# Altium schematic symbol library DRV8833_DRIVER.SchLib: 1 symbol
Pins are listed as number, name and electrical type; pins without a type are passive.

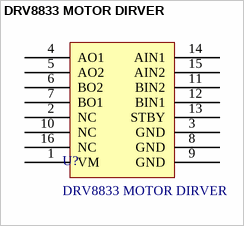
[diagram p0: symbol DRV8833 MOTOR DIRVER]

## DRV8833 MOTOR DIRVER
designator U?
footprint DRV8833 MOTOR DRIVER
pins: 1 VM, 2 NC, 3 GND, 4 AO1, 5 AO2, 6 BO2, 7 BO1, 8 GND, 9 GND, 10 NC, 11 BIN2, 12 BIN1, 13 STBY, 14 AIN1, 15 AIN2, 16 NC